# Altium schematic symbol library Schlib1.SchLib: 1 symbol
Pins are listed as number, name and electrical type; pins without a type are passive.

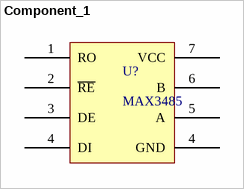
[diagram p0: symbol Component_1]

## Component_1
designator U?, comment MAX3485
pins: 1 RO, 2 ~{RE}, 3 DE, 4 DI, 4 GND, 5 A, 6 B, 7 VCC